# EAGLE library part MULTIPLEXER (library iceberg20)
NEXPERIA 74HC4067D IC: digital; Demultiplexer/ Multiplexer; Kanäle: 16; SMD; SO24 Datenblatt: Link <https://www.tme.eu/Document/f7469e4262be23b806ff9ce642496e1e/74HC4067D.pdf>
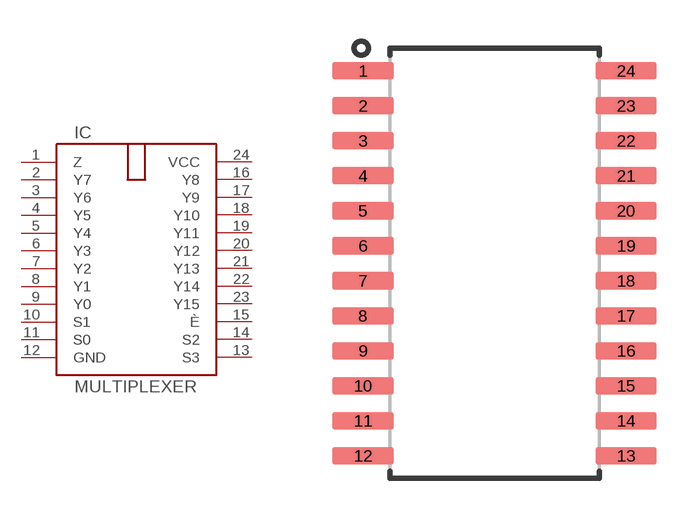
[diagram p7: symbol with the pads of SO24; footprint SO24]

Designator prefix IC

## MULTIPLEXER (BESTAND: ?; HERSTELLER: NEXPERIA; HERSTELLER-NR: 74HC4067D; SUPPLIER: TME; SUPPLIER-NR: 74HC4067D)  [SO24]
1  Z
2  Y7
3  Y6
4  Y5
5  Y4
6  Y3
7  Y2
8  Y1
9  Y0
10  S1
11  S0
12  GND
13  S3
14  S2
15  È
16  Y8
17  Y9
18  Y10
19  Y11
20  Y12
21  Y13
22  Y14
23  Y15
24  VCC

## Footprint SO24 (pad centres in mm)
24-SOIC, 1.27 mm pitch, 10.32 mm span, 15.40 X 7.50 X 2.65 mm body 24-pin SOIC package with 1.27 mm pitch, 10.32 mm span with body size 15.40 X 7.50 X 2.65 mm
smd 2.216 x 0.631: 1 -4.772,6.985; 2 -4.772,5.715; 3 -4.772,4.445; 4 -4.772,3.175; 5 -4.772,1.905; 6 -4.772,0.635; 7 -4.772,-0.635; 8 -4.772,-1.905; 9 -4.772,-3.175; 10 -4.772,-4.445; 11 -4.772,-5.715; 12 -4.772,-6.985; 13 4.772,-6.985; 14 4.772,-5.715; 15 4.772,-4.445; 16 4.772,-3.175; 17 4.772,-1.905; 18 4.772,-0.635; 19 4.772,0.635; 20 4.772,1.905; 21 4.772,3.175; 22 4.772,4.445; 23 4.772,5.715; 24 4.772,6.985